# Altium schematic symbol library STC系列单片机.SchLib: 56 symbols
Pins are listed as number, name and electrical type; pins without a type are passive.

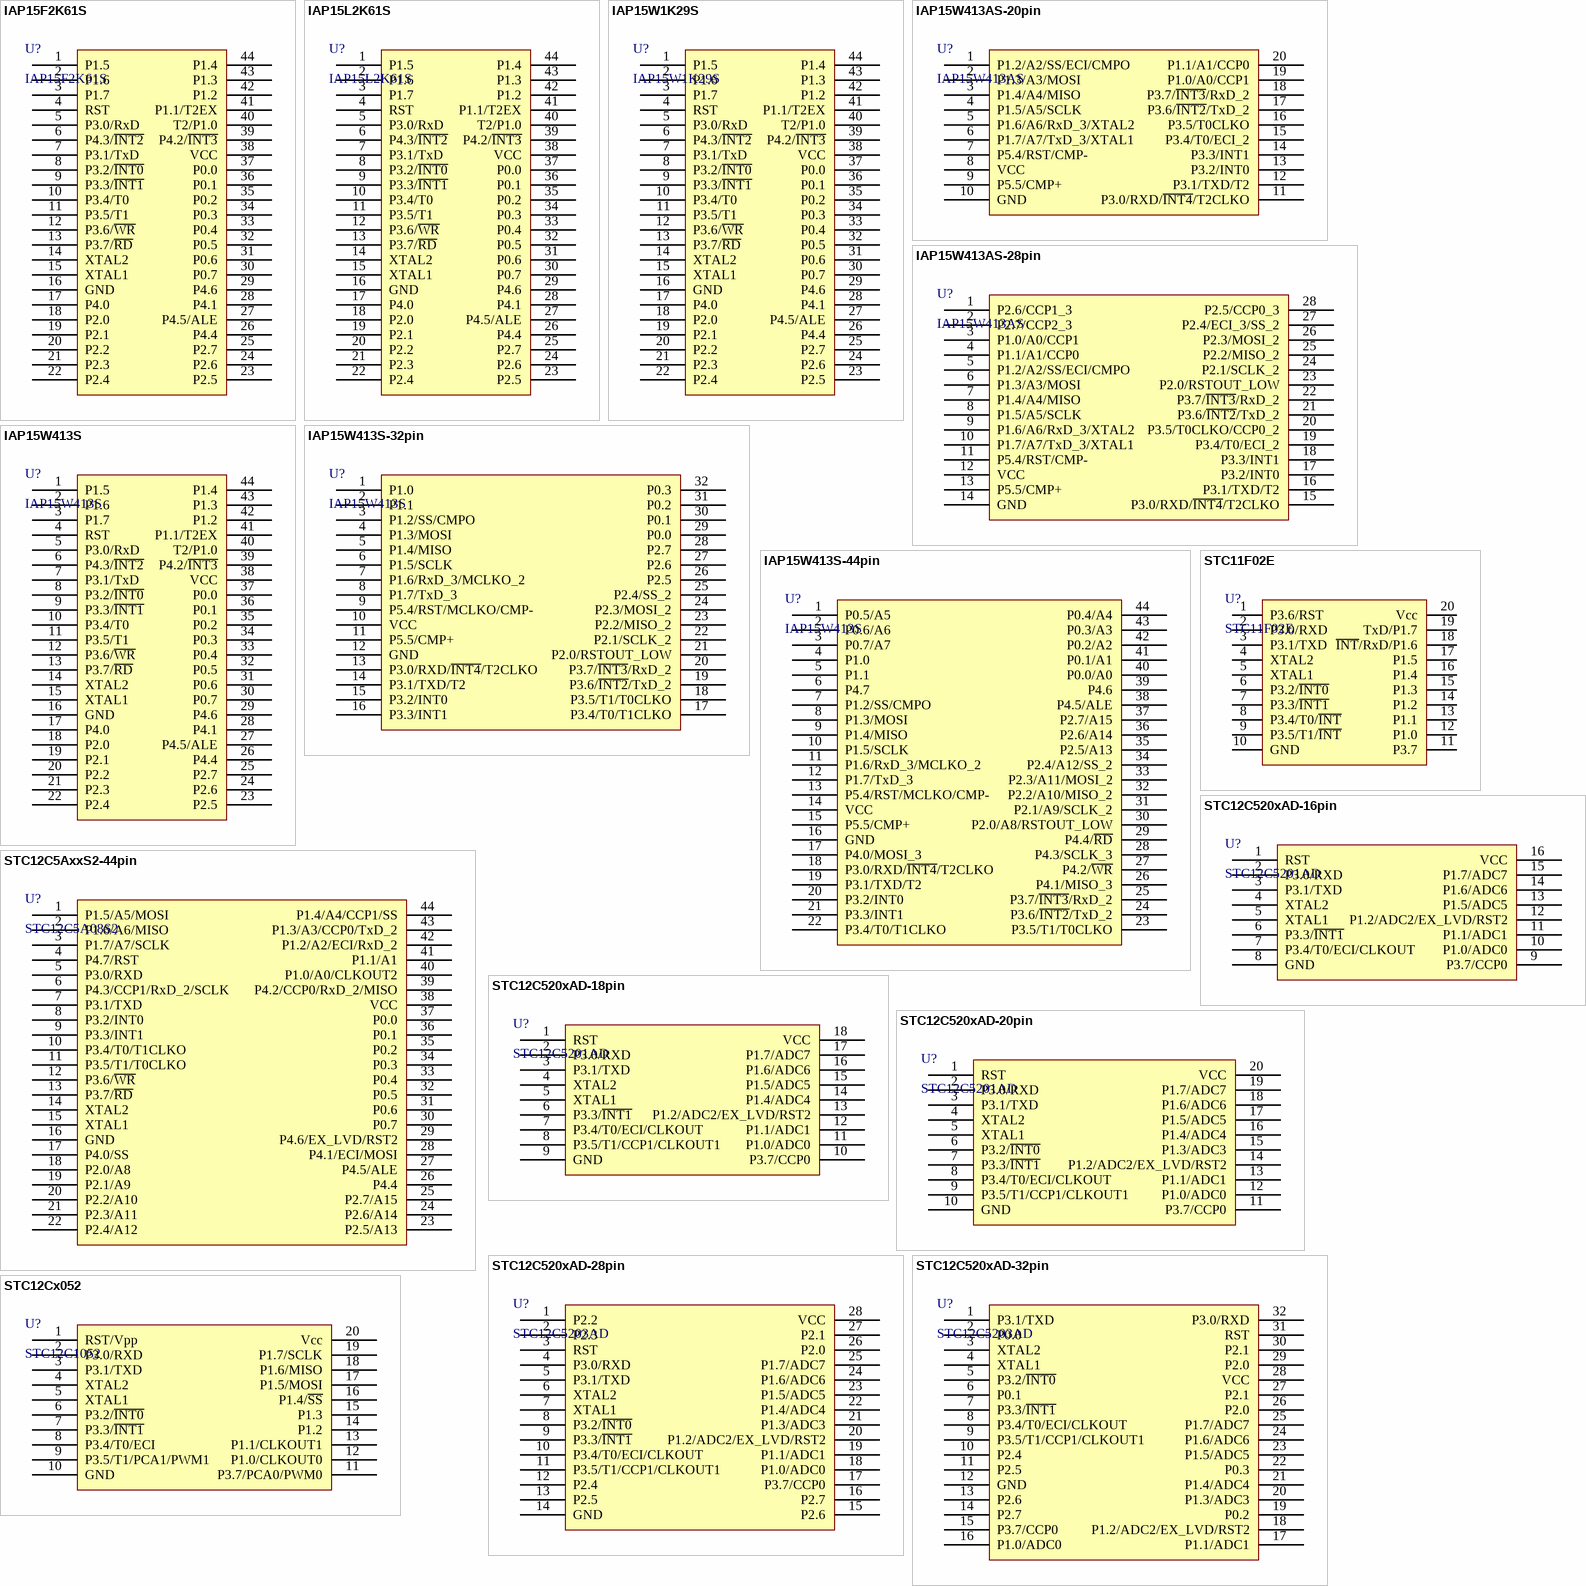
[diagram p0: symbols IAP15F2K61S to STC12Cx052]

## IAP15F2K61S
designator U?
STC单片机; 版权归属: 源创客; BOM名称: STC单片机; 学习资源: www.ooocke.com
footprint LQFP44 10X10_N (10*10*1.4(长宽高，除引脚）)
footprint LQFP44 10X10_L (10*10*1.4(长宽高，除引脚）)
footprint LQFP44 10X10_M (10*10*1.4(长宽高，除引脚）)
pins: 1 P1.5, 2 P1.6, 3 P1.7, 4 RST, 5 P3.0/RxD, 6 P4.3/~{INT2}, 7 P3.1/TxD, 8 P3.2/~{INT0}, 9 P3.3/~{INT1}, 10 P3.4/T0, 11 P3.5/T1, 12 P3.6/~{WR}, 13 P3.7/~{RD}, 14 XTAL2, 15 XTAL1, 16 GND, 17 P4.0, 18 P2.0, 19 P2.1, 20 P2.2, 21 P2.3, 22 P2.4, 23 P2.5, 24 P2.6, 25 P2.7, 26 P4.4, 27 P4.5/ALE, 28 P4.1, 29 P4.6, 30 P0.7, 31 P0.6, 32 P0.5, 33 P0.4, 34 P0.3, 35 P0.2, 36 P0.1, 37 P0.0, 38 VCC, 39 P4.2/~{INT3}, 40 T2/P1.0, 41 P1.1/T2EX, 42 P1.2, 43 P1.3, 44 P1.4

## IAP15L2K61S
designator U?
STC单片机; 版权归属: 源创客; BOM名称: STC单片机; 学习资源: www.ooocke.com
footprint LQFP44 10X10_N (10*10*1.4(长宽高，除引脚）)
footprint LQFP44 10X10_L (10*10*1.4(长宽高，除引脚）)
footprint LQFP44 10X10_M (10*10*1.4(长宽高，除引脚）)
pins: 1 P1.5, 2 P1.6, 3 P1.7, 4 RST, 5 P3.0/RxD, 6 P4.3/~{INT2}, 7 P3.1/TxD, 8 P3.2/~{INT0}, 9 P3.3/~{INT1}, 10 P3.4/T0, 11 P3.5/T1, 12 P3.6/~{WR}, 13 P3.7/~{RD}, 14 XTAL2, 15 XTAL1, 16 GND, 17 P4.0, 18 P2.0, 19 P2.1, 20 P2.2, 21 P2.3, 22 P2.4, 23 P2.5, 24 P2.6, 25 P2.7, 26 P4.4, 27 P4.5/ALE, 28 P4.1, 29 P4.6, 30 P0.7, 31 P0.6, 32 P0.5, 33 P0.4, 34 P0.3, 35 P0.2, 36 P0.1, 37 P0.0, 38 VCC, 39 P4.2/~{INT3}, 40 T2/P1.0, 41 P1.1/T2EX, 42 P1.2, 43 P1.3, 44 P1.4

## IAP15W1K29S
designator U?
STC单片机; 版权归属: 源创客; BOM名称: STC单片机; 学习资源: www.ooocke.com
footprint LQFP44 10X10_N (10*10*1.4(长宽高，除引脚）)
footprint LQFP44 10X10_L (10*10*1.4(长宽高，除引脚）)
footprint LQFP44 10X10_M (10*10*1.4(长宽高，除引脚）)
pins: 1 P1.5, 2 P1.6, 3 P1.7, 4 RST, 5 P3.0/RxD, 6 P4.3/~{INT2}, 7 P3.1/TxD, 8 P3.2/~{INT0}, 9 P3.3/~{INT1}, 10 P3.4/T0, 11 P3.5/T1, 12 P3.6/~{WR}, 13 P3.7/~{RD}, 14 XTAL2, 15 XTAL1, 16 GND, 17 P4.0, 18 P2.0, 19 P2.1, 20 P2.2, 21 P2.3, 22 P2.4, 23 P2.5, 24 P2.6, 25 P2.7, 26 P4.4, 27 P4.5/ALE, 28 P4.1, 29 P4.6, 30 P0.7, 31 P0.6, 32 P0.5, 33 P0.4, 34 P0.3, 35 P0.2, 36 P0.1, 37 P0.0, 38 VCC, 39 P4.2/~{INT3}, 40 T2/P1.0, 41 P1.1/T2EX, 42 P1.2, 43 P1.3, 44 P1.4

## IAP15W413AS-20pin
designator U?, comment IAP15W413AS
STC单片机; 版权归属: 源创客; BOM名称: STC单片机; 学习资源: www.ooocke.com
footprint DIP20-300 (26.4*7.6*3.8(长宽高）)
footprint SOP20_L (13*10.6*2.6（长宽高）)
footprint SOP20_N (13*10.6*2.6（长宽高）)
footprint SOP20_M (13*10.6*2.6（长宽高）)
pins: 1 P1.2/A2/SS/ECI/CMPO, 2 P1.3/A3/MOSI, 3 P1.4/A4/MISO, 4 P1.5/A5/SCLK, 5 P1.6/A6/RxD_3/XTAL2, 6 P1.7/A7/TxD_3/XTAL1, 7 P5.4/RST/CMP-, 8 VCC, 9 P5.5/CMP+, 10 GND, 11 P3.0/RXD/~{INT4}/T2CLKO, 12 P3.1/TXD/T2, 13 P3.2/INT0, 14 P3.3/INT1, 15 P3.4/T0/ECI_2, 16 P3.5/T0CLKO, 17 P3.6/~{INT2}/TxD_2, 18 P3.7/~{INT3}/RxD_2, 19 P1.0/A0/CCP1, 20 P1.1/A1/CCP0

## IAP15W413AS-28pin
designator U?, comment IAP15W413AS
STC单片机; 版权归属: 源创客; BOM名称: STC单片机; 学习资源: www.ooocke.com
footprint DIP28-400 (36*10.16*3.8(长宽高）)
footprint SOP28_L (17.9*10.6*2.6mm（长宽高）)
footprint SOP28_N (17.9*10.6*2.6mm（长宽高）)
footprint SOP28_M (17.9*10.6*2.6mm（长宽高）)
pins: 1 P2.6/CCP1_3, 2 P2.7/CCP2_3, 3 P1.0/A0/CCP1, 4 P1.1/A1/CCP0, 5 P1.2/A2/SS/ECI/CMPO, 6 P1.3/A3/MOSI, 7 P1.4/A4/MISO, 8 P1.5/A5/SCLK, 9 P1.6/A6/RxD_3/XTAL2, 10 P1.7/A7/TxD_3/XTAL1, 11 P5.4/RST/CMP-, 12 VCC, 13 P5.5/CMP+, 14 GND, 15 P3.0/RXD/~{INT4}/T2CLKO, 16 P3.1/TXD/T2, 17 P3.2/INT0, 18 P3.3/INT1, 19 P3.4/T0/ECI_2, 20 P3.5/T0CLKO/CCP0_2, 21 P3.6/~{INT2}/TxD_2, 22 P3.7/~{INT3}/RxD_2, 23 P2.0/RSTOUT_LOW, 24 P2.1/SCLK_2, 25 P2.2/MISO_2, 26 P2.3/MOSI_2, 27 P2.4/ECI_3/SS_2, 28 P2.5/CCP0_3

## IAP15W413S
designator U?
STC单片机; 版权归属: 源创客; BOM名称: STC单片机; 学习资源: www.ooocke.com
footprint LQFP44 10X10_N (10*10*1.4(长宽高，除引脚）)
footprint LQFP44 10X10_L (10*10*1.4(长宽高，除引脚）)
footprint LQFP44 10X10_M (10*10*1.4(长宽高，除引脚）)
pins: 1 P1.5, 2 P1.6, 3 P1.7, 4 RST, 5 P3.0/RxD, 6 P4.3/~{INT2}, 7 P3.1/TxD, 8 P3.2/~{INT0}, 9 P3.3/~{INT1}, 10 P3.4/T0, 11 P3.5/T1, 12 P3.6/~{WR}, 13 P3.7/~{RD}, 14 XTAL2, 15 XTAL1, 16 GND, 17 P4.0, 18 P2.0, 19 P2.1, 20 P2.2, 21 P2.3, 22 P2.4, 23 P2.5, 24 P2.6, 25 P2.7, 26 P4.4, 27 P4.5/ALE, 28 P4.1, 29 P4.6, 30 P0.7, 31 P0.6, 32 P0.5, 33 P0.4, 34 P0.3, 35 P0.2, 36 P0.1, 37 P0.0, 38 VCC, 39 P4.2/~{INT3}, 40 T2/P1.0, 41 P1.1/T2EX, 42 P1.2, 43 P1.3, 44 P1.4

## IAP15W413S-32pin
designator U?, comment IAP15W413S
STC单片机; 版权归属: 源创客; BOM名称: STC单片机; 学习资源: www.ooocke.com
footprint LQFP32 7x7_L (7*7*1.4(长宽高，除引脚）)
footprint LQFP32 7x7_N (7*7*1.4(长宽高，除引脚）)
footprint LQFP32 7x7_M (7*7*1.4(长宽高，除引脚）)
pins: 1 P1.0, 2 P1.1, 3 P1.2/SS/CMPO, 4 P1.3/MOSI, 5 P1.4/MISO, 6 P1.5/SCLK, 7 P1.6/RxD_3/MCLKO_2, 8 P1.7/TxD_3, 9 P5.4/RST/MCLKO/CMP-, 10 VCC, 11 P5.5/CMP+, 12 GND, 13 P3.0/RXD/~{INT4}/T2CLKO, 14 P3.1/TXD/T2, 15 P3.2/INT0, 16 P3.3/INT1, 17 P3.4/T0/T1CLKO, 18 P3.5/T1/T0CLKO, 19 P3.6/~{INT2}/TxD_2, 20 P3.7/~{INT3}/RxD_2, 21 P2.0/RSTOUT_LOW, 22 P2.1/SCLK_2, 23 P2.2/MISO_2, 24 P2.3/MOSI_2, 25 P2.4/SS_2, 26 P2.5, 27 P2.6, 28 P2.7, 29 P0.0, 30 P0.1, 31 P0.2, 32 P0.3

## IAP15W413S-44pin
designator U?, comment IAP15W413S
STC单片机; 版权归属: 源创客; BOM名称: STC单片机; 学习资源: www.ooocke.com
footprint LQFP44 10x10_L (10*10*1.4(长宽高，除引脚）)
footprint LQFP44 10x10_N (10*10*1.4(长宽高，除引脚）)
footprint LQFP44 10x10_M (10*10*1.4(长宽高，除引脚）)
pins: 1 P0.5/A5, 2 P0.6/A6, 3 P0.7/A7, 4 P1.0, 5 P1.1, 6 P4.7, 7 P1.2/SS/CMPO, 8 P1.3/MOSI, 9 P1.4/MISO, 10 P1.5/SCLK, 11 P1.6/RxD_3/MCLKO_2, 12 P1.7/TxD_3, 13 P5.4/RST/MCLKO/CMP-, 14 VCC, 15 P5.5/CMP+, 16 GND, 17 P4.0/MOSI_3, 18 P3.0/RXD/~{INT4}/T2CLKO, 19 P3.1/TXD/T2, 20 P3.2/INT0, 21 P3.3/INT1, 22 P3.4/T0/T1CLKO, 23 P3.5/T1/T0CLKO, 24 P3.6/~{INT2}/TxD_2, 25 P3.7/~{INT3}/RxD_2, 26 P4.1/MISO_3, 27 P4.2/~{WR}, 28 P4.3/SCLK_3, 29 P4.4/~{RD}, 30 P2.0/A8/RSTOUT_LOW, 31 P2.1/A9/SCLK_2, 32 P2.2/A10/MISO_2, 33 P2.3/A11/MOSI_2, 34 P2.4/A12/SS_2, 35 P2.5/A13, 36 P2.6/A14, 37 P2.7/A15, 38 P4.5/ALE, 39 P4.6, 40 P0.0/A0, 41 P0.1/A1, 42 P0.2/A2, 43 P0.3/A3, 44 P0.4/A4

## STC11F02E
designator U?
STC单片机; 版权归属: 源创客; 学习资源: www.ooocke.com; BOM名称: STC单片机
footprint DIP20-300 (26.4*7.6*3.8(长宽高）)
footprint SOP20_N (13*10.6*2.6（长宽高）)
footprint SOP20_L (13*10.6*2.6（长宽高）)
footprint SOP20_M (13*10.6*2.6（长宽高）)
pins: 1 P3.6/RST, 2 P3.0/RXD, 3 P3.1/TXD, 4 XTAL2, 5 XTAL1, 6 P3.2/~{INT0}, 7 P3.3/~{INT1}, 8 P3.4/T0/~{INT}, 9 P3.5/T1/~{INT}, 10 GND, 11 P3.7, 12 P1.0, 13 P1.1, 14 P1.2, 15 P1.3, 16 P1.4, 17 P1.5, 18 ~{INT}/RxD/P1.6, 19 TxD/P1.7, 20 Vcc

## STC12C5AxxS2-44pin
designator U?, comment STC12C5A08S2
STC单片机; 版权归属: 源创客; BOM名称: STC单片机; 学习资源: www.ooocke.com
footprint LQFP44 10x10_L (10*10*1.4(长宽高，除引脚）)
footprint LQFP44 10x10_N (10*10*1.4(长宽高，除引脚）)
footprint LQFP44 10x10_M (10*10*1.4(长宽高，除引脚）)
pins: 1 P1.5/A5/MOSI, 2 P1.6/A6/MISO, 3 P1.7/A7/SCLK, 4 P4.7/RST, 5 P3.0/RXD, 6 P4.3/CCP1/RxD_2/SCLK, 7 P3.1/TXD, 8 P3.2/INT0, 9 P3.3/INT1, 10 P3.4/T0/T1CLKO, 11 P3.5/T1/T0CLKO, 12 P3.6/~{WR}, 13 P3.7/~{RD}, 14 XTAL2, 15 XTAL1, 16 GND, 17 P4.0/SS, 18 P2.0/A8, 19 P2.1/A9, 20 P2.2/A10, 21 P2.3/A11, 22 P2.4/A12, 23 P2.5/A13, 24 P2.6/A14, 25 P2.7/A15, 26 P4.4, 27 P4.5/ALE, 28 P4.1/ECI/MOSI, 29 P4.6/EX_LVD/RST2, 30 P0.7, 31 P0.6, 32 P0.5, 33 P0.4, 34 P0.3, 35 P0.2, 36 P0.1, 37 P0.0, 38 VCC, 39 P4.2/CCP0/RxD_2/MISO, 40 P1.0/A0/CLKOUT2, 41 P1.1/A1, 42 P1.2/A2/ECI/RxD_2, 43 P1.3/A3/CCP0/TxD_2, 44 P1.4/A4/CCP1/SS

## STC12C520xAD-16pin
designator U?, comment STC12C5201AD
STC带AD单片机; 版权归属: 源创客; BOM名称: STC带AD单片机; 学习资源: www.ooocke.com
footprint DIP16-300 (19.3*7.6*3.8(长宽高）)
footprint SOP16_L (10.3*6.2*1.8mm（长宽高）)
footprint SOP16_N (10.3*6.2*1.8mm（长宽高）)
footprint SOP16_M (10.3*6.2*1.8mm（长宽高）)
pins: 1 RST, 2 P3.0/RXD, 3 P3.1/TXD, 4 XTAL2, 5 XTAL1, 6 P3.3/~{INT1}, 7 P3.4/T0/ECI/CLKOUT, 8 GND, 9 P3.7/CCP0, 10 P1.0/ADC0, 11 P1.1/ADC1, 12 P1.2/ADC2/EX_LVD/RST2, 13 P1.5/ADC5, 14 P1.6/ADC6, 15 P1.7/ADC7, 16 VCC

## STC12C520xAD-18pin
designator U?, comment STC12C5201AD
STC带AD单片机; 版权归属: 源创客; BOM名称: STC带AD单片机; 学习资源: www.ooocke.com
footprint DIP18-300 (23*7.6*3.8(长宽高）)
pins: 1 RST, 2 P3.0/RXD, 3 P3.1/TXD, 4 XTAL2, 5 XTAL1, 6 P3.3/~{INT1}, 7 P3.4/T0/ECI/CLKOUT, 8 P3.5/T1/CCP1/CLKOUT1, 9 GND, 10 P3.7/CCP0, 11 P1.0/ADC0, 12 P1.1/ADC1, 13 P1.2/ADC2/EX_LVD/RST2, 14 P1.4/ADC4, 15 P1.5/ADC5, 16 P1.6/ADC6, 17 P1.7/ADC7, 18 VCC

## STC12C520xAD-20pin
designator U?, comment STC12C5201AD
STC带AD单片机; 版权归属: 源创客; BOM名称: STC带AD单片机; 学习资源: www.ooocke.com
footprint DIP20-300 (26.4*7.6*3.8(长宽高）)
footprint SOP20_L (13*10.6*2.6（长宽高）)
footprint SOP20_N (13*10.6*2.6（长宽高）)
footprint SOP20_M (13*10.6*2.6（长宽高）)
pins: 1 RST, 2 P3.0/RXD, 3 P3.1/TXD, 4 XTAL2, 5 XTAL1, 6 P3.2/~{INT0}, 7 P3.3/~{INT1}, 8 P3.4/T0/ECI/CLKOUT, 9 P3.5/T1/CCP1/CLKOUT1, 10 GND, 11 P3.7/CCP0, 12 P1.0/ADC0, 13 P1.1/ADC1, 14 P1.2/ADC2/EX_LVD/RST2, 15 P1.3/ADC3, 16 P1.4/ADC4, 17 P1.5/ADC5, 18 P1.6/ADC6, 19 P1.7/ADC7, 20 VCC

## STC12C520xAD-28pin
designator U?, comment STC12C5203AD
STC带AD单片机; 版权归属: 源创客; BOM名称: STC带AD单片机; 学习资源: www.ooocke.com
footprint DIP28-400 (36*10.16*3.8(长宽高）)
footprint SOP28_L (17.9*10.6*2.6mm（长宽高）)
footprint SOP28_N (17.9*10.6*2.6mm（长宽高）)
footprint SOP28_M (17.9*10.6*2.6mm（长宽高）)
pins: 1 P2.2, 2 P2.3, 3 RST, 4 P3.0/RXD, 5 P3.1/TXD, 6 XTAL2, 7 XTAL1, 8 P3.2/~{INT0}, 9 P3.3/~{INT1}, 10 P3.4/T0/ECI/CLKOUT, 11 P3.5/T1/CCP1/CLKOUT1, 12 P2.4, 13 P2.5, 14 GND, 15 P2.6, 16 P2.7, 17 P3.7/CCP0, 18 P1.0/ADC0, 19 P1.1/ADC1, 20 P1.2/ADC2/EX_LVD/RST2, 21 P1.3/ADC3, 22 P1.4/ADC4, 23 P1.5/ADC5, 24 P1.6/ADC6, 25 P1.7/ADC7, 26 P2.0, 27 P2.1, 28 VCC

## STC12C520xAD-32pin
designator U?, comment STC12C5203AD
STC带AD单片机; 版权归属: 源创客; BOM名称: STC带AD单片机; 学习资源: www.ooocke.com
footprint LQFP32 7x7_L (7*7*1.4(长宽高，除引脚）)
footprint LQFP32 7x7_N (7*7*1.4(长宽高，除引脚）)
footprint LQFP32 7x7_M (7*7*1.4(长宽高，除引脚）)
pins: 1 P3.1/TXD, 2 P0.0, 3 XTAL2, 4 XTAL1, 5 P3.2/~{INT0}, 6 P0.1, 7 P3.3/~{INT1}, 8 P3.4/T0/ECI/CLKOUT, 9 P3.5/T1/CCP1/CLKOUT1, 10 P2.4, 11 P2.5, 12 GND, 13 P2.6, 14 P2.7, 15 P3.7/CCP0, 16 P1.0/ADC0, 17 P1.1/ADC1, 18 P1.2/ADC2/EX_LVD/RST2, 19 P0.2, 20 P1.3/ADC3, 21 P1.4/ADC4, 22 P0.3, 23 P1.5/ADC5, 24 P1.6/ADC6, 25 P1.7/ADC7, 26 P2.0, 27 P2.1, 28 VCC, 29 P2.0, 30 P2.1, 31 RST, 32 P3.0/RXD

## STC12Cx052
designator U?, comment STC12C1052
STC单片机; 版权归属: 源创客; 学习资源: www.ooocke.com; BOM名称: STC单片机
footprint DIP20-300 (26.4*7.6*3.8(长宽高）)
footprint SOP20_L (13*10.6*2.6（长宽高）)
footprint SOP20_M (13*10.6*2.6（长宽高）)
footprint SOP20_N (13*10.6*2.6（长宽高）)
pins: 1 RST/Vpp, 2 P3.0/RXD, 3 P3.1/TXD, 4 XTAL2, 5 XTAL1, 6 P3.2/~{INT0}, 7 P3.3/~{INT1}, 8 P3.4/T0/ECI, 9 P3.5/T1/PCA1/PWM1, 10 GND, 11 P3.7/PCA0/PWM0, 12 P1.0/CLKOUT0, 13 P1.1/CLKOUT1, 14 P1.2, 15 P1.3, 16 P1.4/~{SS}, 17 P1.5/MOSI, 18 P1.6/MISO, 19 P1.7/SCLK, 20 Vcc

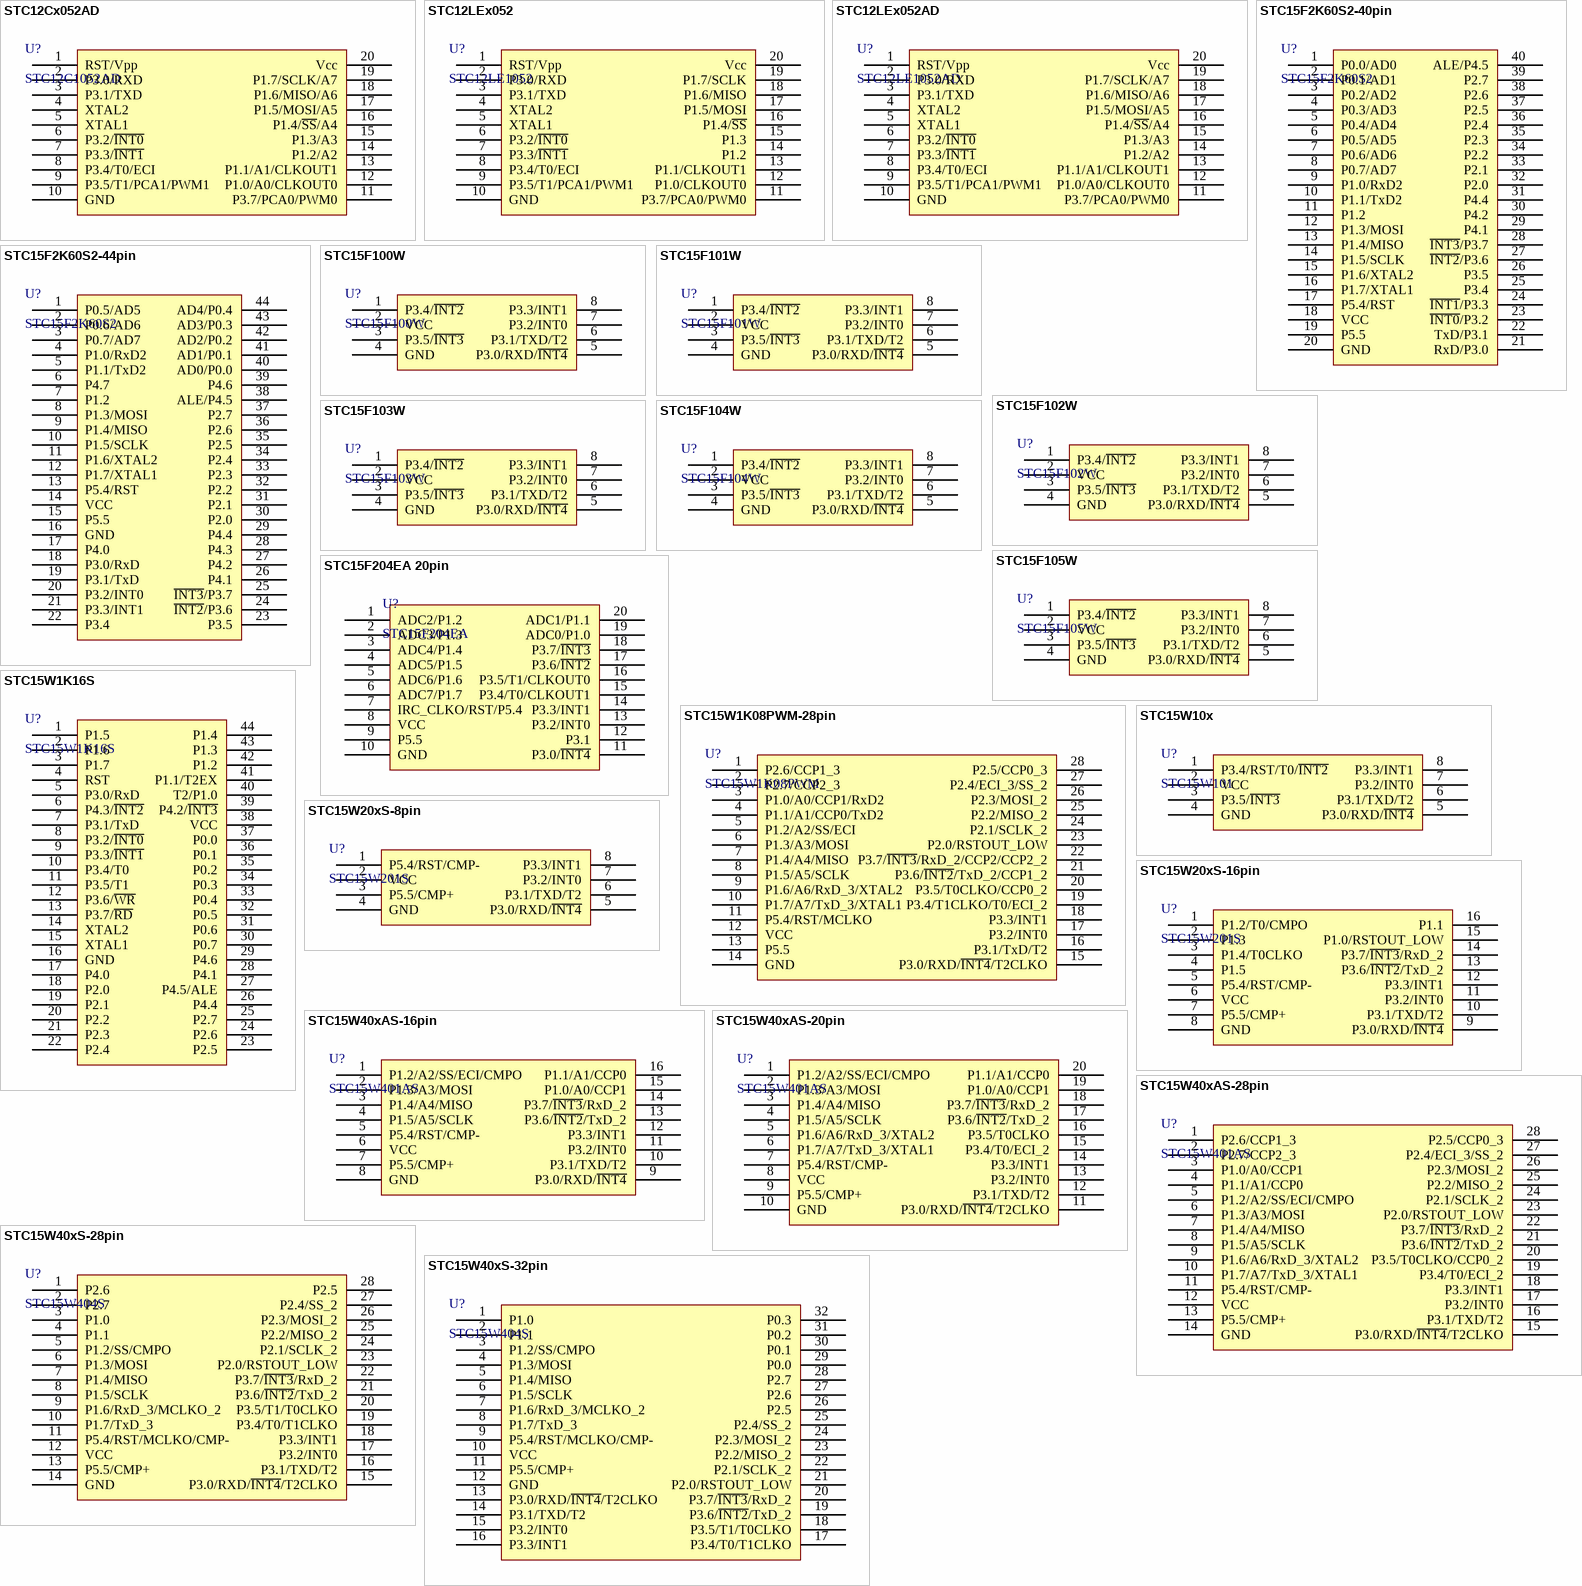
[diagram p1: symbols STC12Cx052AD to STC15W40xS-32pin]

## STC12Cx052AD
designator U?, comment STC12C1052AD
STC带AD单片机; 版权归属: 源创客; 学习资源: www.ooocke.com; BOM名称: STC带AD单片机
footprint DIP20-300 (26.4*7.6*3.8(长宽高）)
footprint SOP20_L (13*10.6*2.6（长宽高）)
footprint SOP20_M (13*10.6*2.6（长宽高）)
footprint SOP20_N (13*10.6*2.6（长宽高）)
pins: 1 RST/Vpp, 2 P3.0/RXD, 3 P3.1/TXD, 4 XTAL2, 5 XTAL1, 6 P3.2/~{INT0}, 7 P3.3/~{INT1}, 8 P3.4/T0/ECI, 9 P3.5/T1/PCA1/PWM1, 10 GND, 11 P3.7/PCA0/PWM0, 12 P1.0/A0/CLKOUT0, 13 P1.1/A1/CLKOUT1, 14 P1.2/A2, 15 P1.3/A3, 16 P1.4/~{SS}/A4, 17 P1.5/MOSI/A5, 18 P1.6/MISO/A6, 19 P1.7/SCLK/A7, 20 Vcc

## STC12LEx052
designator U?, comment STC12LE1052
STC单片机; 版权归属: 源创客; 学习资源: www.ooocke.com; BOM名称: STC单片机
footprint DIP20-300 (26.4*7.6*3.8(长宽高）)
footprint SOP20_L (13*10.6*2.6（长宽高）)
footprint SOP20_M (13*10.6*2.6（长宽高）)
footprint SOP20_N (13*10.6*2.6（长宽高）)
pins: 1 RST/Vpp, 2 P3.0/RXD, 3 P3.1/TXD, 4 XTAL2, 5 XTAL1, 6 P3.2/~{INT0}, 7 P3.3/~{INT1}, 8 P3.4/T0/ECI, 9 P3.5/T1/PCA1/PWM1, 10 GND, 11 P3.7/PCA0/PWM0, 12 P1.0/CLKOUT0, 13 P1.1/CLKOUT1, 14 P1.2, 15 P1.3, 16 P1.4/~{SS}, 17 P1.5/MOSI, 18 P1.6/MISO, 19 P1.7/SCLK, 20 Vcc

## STC12LEx052AD
designator U?, comment STC12LE1052AD
STC带AD单片机; 版权归属: 源创客; 学习资源: www.ooocke.com; BOM名称: STC带AD单片机
footprint DIP20-300 (26.4*7.6*3.8(长宽高）)
footprint SOP20_L (13*10.6*2.6（长宽高）)
footprint SOP20_M (13*10.6*2.6（长宽高）)
footprint SOP20_N (13*10.6*2.6（长宽高）)
pins: 1 RST/Vpp, 2 P3.0/RXD, 3 P3.1/TXD, 4 XTAL2, 5 XTAL1, 6 P3.2/~{INT0}, 7 P3.3/~{INT1}, 8 P3.4/T0/ECI, 9 P3.5/T1/PCA1/PWM1, 10 GND, 11 P3.7/PCA0/PWM0, 12 P1.0/A0/CLKOUT0, 13 P1.1/A1/CLKOUT1, 14 P1.2/A2, 15 P1.3/A3, 16 P1.4/~{SS}/A4, 17 P1.5/MOSI/A5, 18 P1.6/MISO/A6, 19 P1.7/SCLK/A7, 20 Vcc

## STC15F2K60S2-40pin
designator U?, comment STC15F2K60S2
STC单片机; 版权归属: 源创客; BOM名称: STC单片机; 学习资源: www.ooocke.com
footprint DIP40-600_MH (带底座 52*15.2*4mm(长宽高))
footprint DIP40-600 (52*15.2*4mm(长宽高))
pins: 1 P0.0/AD0, 2 P0.1/AD1, 3 P0.2/AD2, 4 P0.3/AD3, 5 P0.4/AD4, 6 P0.5/AD5, 7 P0.6/AD6, 8 P0.7/AD7, 9 P1.0/RxD2, 10 P1.1/TxD2, 11 P1.2, 12 P1.3/MOSI, 13 P1.4/MISO, 14 P1.5/SCLK, 15 P1.6/XTAL2, 16 P1.7/XTAL1, 17 P5.4/RST, 18 VCC, 19 P5.5, 20 GND, 21 RxD/P3.0, 22 TxD/P3.1, 23 ~{INT0}/P3.2, 24 ~{INT1}/P3.3, 25 P3.4, 26 P3.5, 27 ~{INT2}/P3.6, 28 ~{INT3}/P3.7, 29 P4.1, 30 P4.2, 31 P4.4, 32 P2.0, 33 P2.1, 34 P2.2, 35 P2.3, 36 P2.4, 37 P2.5, 38 P2.6, 39 P2.7, 40 ALE/P4.5

## STC15F2K60S2-44pin
designator U?, comment STC15F2K60S2
STC单片机; 版权归属: 源创客; BOM名称: STC单片机; 学习资源: www.ooocke.com
footprint LQFP44 10X10_L (44脚，体宽10x10mm，脚距0.8mm)
footprint LQFP44 10X10_M (44脚，体宽10x10mm，脚距0.8mm)
footprint LQFP44 10X10_N (44脚，体宽10x10mm，脚距0.8mm)
pins: 1 P0.5/AD5, 2 P0.6/AD6, 3 P0.7/AD7, 4 P1.0/RxD2, 5 P1.1/TxD2, 6 P4.7, 7 P1.2, 8 P1.3/MOSI, 9 P1.4/MISO, 10 P1.5/SCLK, 11 P1.6/XTAL2, 12 P1.7/XTAL1, 13 P5.4/RST, 14 VCC, 15 P5.5, 16 GND, 17 P4.0, 18 P3.0/RxD, 19 P3.1/TxD, 20 P3.2/INT0, 21 P3.3/INT1, 22 P3.4, 23 P3.5, 24 ~{INT2}/P3.6, 25 ~{INT3}/P3.7, 26 P4.1, 27 P4.2, 28 P4.3, 29 P4.4, 30 P2.0, 31 P2.1, 32 P2.2, 33 P2.3, 34 P2.4, 35 P2.5, 36 P2.6, 37 P2.7, 38 ALE/P4.5, 39 P4.6, 40 AD0/P0.0, 41 AD1/P0.1, 42 AD2/P0.2, 43 AD3/P0.3, 44 AD4/P0.4

## STC15F100W
designator U?
STC单片机; 版权归属: 源创客; BOM名称: STC单片机; 学习资源: www.ooocke.com
footprint DIP8-300 (9.4*7.6*3.8(长宽高）)
footprint SOP8_L (5*6*1.8mm（长宽高）)
footprint SOP8_N (5*6*1.8mm（长宽高）)
footprint SOP8_M (5*6*1.8mm（长宽高）)
pins: 1 P3.4/~{INT2}, 2 VCC, 3 P3.5/~{INT3}, 4 GND, 5 P3.0/RXD/~{INT4}, 6 P3.1/TXD/T2, 7 P3.2/INT0, 8 P3.3/INT1

## STC15F101W
designator U?
STC单片机; 版权归属: 源创客; BOM名称: STC单片机; 学习资源: www.ooocke.com
footprint DIP8-300 (9.4*7.6*3.8(长宽高）)
footprint SOP8_L (5*6*1.8mm（长宽高）)
footprint SOP8_N (5*6*1.8mm（长宽高）)
footprint SOP8_M (5*6*1.8mm（长宽高）)
pins: 1 P3.4/~{INT2}, 2 VCC, 3 P3.5/~{INT3}, 4 GND, 5 P3.0/RXD/~{INT4}, 6 P3.1/TXD/T2, 7 P3.2/INT0, 8 P3.3/INT1

## STC15F102W
designator U?
STC单片机; 版权归属: 源创客; BOM名称: STC单片机; 学习资源: www.ooocke.com
footprint DIP8-300 (9.4*7.6*3.8(长宽高）)
footprint SOP8_L (5*6*1.8mm（长宽高）)
footprint SOP8_N (5*6*1.8mm（长宽高）)
footprint SOP8_M (5*6*1.8mm（长宽高）)
pins: 1 P3.4/~{INT2}, 2 VCC, 3 P3.5/~{INT3}, 4 GND, 5 P3.0/RXD/~{INT4}, 6 P3.1/TXD/T2, 7 P3.2/INT0, 8 P3.3/INT1

## STC15F103W
designator U?
STC单片机; 版权归属: 源创客; BOM名称: STC单片机; 学习资源: www.ooocke.com
footprint DIP8-300 (9.4*7.6*3.8(长宽高）)
footprint SOP8_L (5*6*1.8mm（长宽高）)
footprint SOP8_N (5*6*1.8mm（长宽高）)
footprint SOP8_M (5*6*1.8mm（长宽高）)
pins: 1 P3.4/~{INT2}, 2 VCC, 3 P3.5/~{INT3}, 4 GND, 5 P3.0/RXD/~{INT4}, 6 P3.1/TXD/T2, 7 P3.2/INT0, 8 P3.3/INT1

## STC15F104W
designator U?
STC单片机; 版权归属: 源创客; BOM名称: STC单片机; 学习资源: www.ooocke.com
footprint DIP8-300 (9.4*7.6*3.8(长宽高）)
footprint SOP8_L (5*6*1.8mm（长宽高）)
footprint SOP8_N (5*6*1.8mm（长宽高）)
footprint SOP8_M (5*6*1.8mm（长宽高）)
pins: 1 P3.4/~{INT2}, 2 VCC, 3 P3.5/~{INT3}, 4 GND, 5 P3.0/RXD/~{INT4}, 6 P3.1/TXD/T2, 7 P3.2/INT0, 8 P3.3/INT1

## STC15F105W
designator U?
STC单片机; 版权归属: 源创客; BOM名称: STC单片机; 学习资源: www.ooocke.com
footprint DIP8-300 (9.4*7.6*3.8(长宽高）)
footprint SOP8_L (5*6*1.8mm（长宽高）)
footprint SOP8_N (5*6*1.8mm（长宽高）)
footprint SOP8_M (5*6*1.8mm（长宽高）)
pins: 1 P3.4/~{INT2}, 2 VCC, 3 P3.5/~{INT3}, 4 GND, 5 P3.0/RXD/~{INT4}, 6 P3.1/TXD/T2, 7 P3.2/INT0, 8 P3.3/INT1

## STC15F204EA 20pin
designator U?, comment STC15F204EA
STC单片机; 版权归属: 源创客; BOM名称: STC单片机; 学习资源: www.ooocke.com
footprint DIP20-300 (26.4*7.6*3.8(长宽高）)
footprint DIP20-300_MH (带底座 26.4*7.6*3.8(长宽高）)
footprint SOP20_L (13*10.6*2.6（长宽高）)
footprint SOP20_N (13*10.6*2.6（长宽高）)
footprint SOP20_M (13*10.6*2.6（长宽高）)
pins: 1 ADC2/P1.2, 2 ADC3/P1.3, 3 ADC4/P1.4, 4 ADC5/P1.5, 5 ADC6/P1.6, 6 ADC7/P1.7, 7 IRC_CLKO/RST/P5.4, 8 VCC, 9 P5.5, 10 GND, 11 P3.0/~{INT4}, 12 P3.1, 13 P3.2/INT0, 14 P3.3/INT1, 15 P3.4/T0/CLKOUT1, 16 P3.5/T1/CLKOUT0, 17 P3.6/~{INT2}, 18 P3.7/~{INT3}, 19 ADC0/P1.0, 20 ADC1/P1.1

## STC15W1K08PWM-28pin
designator U?, comment STC15W1K08PWM
STC单片机; 版权归属: 源创客; BOM名称: STC单片机; 学习资源: www.ooocke.com
footprint DIP28-400 (36*10.16*3.8(长宽高）)
footprint SOP28_L (17.9*10.6*2.6mm（长宽高）)
footprint SOP28_N (17.9*10.6*2.6mm（长宽高）)
footprint SOP28_M (17.9*10.6*2.6mm（长宽高）)
pins: 1 P2.6/CCP1_3, 2 P2.7/CCP2_3, 3 P1.0/A0/CCP1/RxD2, 4 P1.1/A1/CCP0/TxD2, 5 P1.2/A2/SS/ECI, 6 P1.3/A3/MOSI, 7 P1.4/A4/MISO, 8 P1.5/A5/SCLK, 9 P1.6/A6/RxD_3/XTAL2, 10 P1.7/A7/TxD_3/XTAL1, 11 P5.4/RST/MCLKO, 12 VCC, 13 P5.5, 14 GND, 15 P3.0/RXD/~{INT4}/T2CLKO, 16 P3.1/TxD/T2, 17 P3.2/INT0, 18 P3.3/INT1, 19 P3.4/T1CLKO/T0/ECI_2, 20 P3.5/T0CLKO/CCP0_2, 21 P3.6/~{INT2}/TxD_2/CCP1_2, 22 P3.7/~{INT3}/RxD_2/CCP2/CCP2_2, 23 P2.0/RSTOUT_LOW, 24 P2.1/SCLK_2, 25 P2.2/MISO_2, 26 P2.3/MOSI_2, 27 P2.4/ECI_3/SS_2, 28 P2.5/CCP0_3

## STC15W1K16S
designator U?
STC单片机; 版权归属: 源创客; BOM名称: STC单片机; 学习资源: www.ooocke.com
footprint LQFP44 10X10_N (10*10*1.4(长宽高，除引脚）)
footprint LQFP44 10X10_L (10*10*1.4(长宽高，除引脚）)
footprint LQFP44 10X10_M (10*10*1.4(长宽高，除引脚）)
pins: 1 P1.5, 2 P1.6, 3 P1.7, 4 RST, 5 P3.0/RxD, 6 P4.3/~{INT2}, 7 P3.1/TxD, 8 P3.2/~{INT0}, 9 P3.3/~{INT1}, 10 P3.4/T0, 11 P3.5/T1, 12 P3.6/~{WR}, 13 P3.7/~{RD}, 14 XTAL2, 15 XTAL1, 16 GND, 17 P4.0, 18 P2.0, 19 P2.1, 20 P2.2, 21 P2.3, 22 P2.4, 23 P2.5, 24 P2.6, 25 P2.7, 26 P4.4, 27 P4.5/ALE, 28 P4.1, 29 P4.6, 30 P0.7, 31 P0.6, 32 P0.5, 33 P0.4, 34 P0.3, 35 P0.2, 36 P0.1, 37 P0.0, 38 VCC, 39 P4.2/~{INT3}, 40 T2/P1.0, 41 P1.1/T2EX, 42 P1.2, 43 P1.3, 44 P1.4

## STC15W10x
designator U?, comment STC15W101
STC单片机; 版权归属: 源创客; BOM名称: STC单片机; 学习资源: www.ooocke.com
footprint DIP8-300 (9.4*7.6*3.8(长宽高）)
footprint SOP8_L (5*6*1.8mm（长宽高）)
footprint SOP8_N (5*6*1.8mm（长宽高）)
footprint SOP8_M (5*6*1.8mm（长宽高）)
pins: 1 P3.4/RST/T0/~{INT2}, 2 VCC, 3 P3.5/~{INT3}, 4 GND, 5 P3.0/RXD/~{INT4}, 6 P3.1/TXD/T2, 7 P3.2/INT0, 8 P3.3/INT1

## STC15W20xS-8pin
designator U?, comment STC15W201S
STC单片机; 版权归属: 源创客; BOM名称: STC单片机; 学习资源: www.ooocke.com
footprint DIP8-300 (9.4*7.6*3.8(长宽高）)
footprint SOP8_L (5*6*1.8mm（长宽高）)
footprint SOP8_N (5*6*1.8mm（长宽高）)
footprint SOP8_M (5*6*1.8mm（长宽高）)
pins: 1 P5.4/RST/CMP-, 2 VCC, 3 P5.5/CMP+, 4 GND, 5 P3.0/RXD/~{INT4}, 6 P3.1/TXD/T2, 7 P3.2/INT0, 8 P3.3/INT1

## STC15W20xS-16pin
designator U?, comment STC15W201S
STC单片机; 版权归属: 源创客; BOM名称: STC单片机; 学习资源: www.ooocke.com
footprint DIP16-300 (19.3*7.6*3.8(长宽高）)
footprint SOP16_L (10.3*6.2*1.8mm（长宽高）)
footprint SOP16_N (10.3*6.2*1.8mm（长宽高）)
footprint SOP16_M (10.3*6.2*1.8mm（长宽高）)
pins: 1 P1.2/T0/CMPO, 2 P1.3, 3 P1.4/T0CLKO, 4 P1.5, 5 P5.4/RST/CMP-, 6 VCC, 7 P5.5/CMP+, 8 GND, 9 P3.0/RXD/~{INT4}, 10 P3.1/TXD/T2, 11 P3.2/INT0, 12 P3.3/INT1, 13 P3.6/~{INT2}/TxD_2, 14 P3.7/~{INT3}/RxD_2, 15 P1.0/RSTOUT_LOW, 16 P1.1

## STC15W40xAS-16pin
designator U?, comment STC15W401AS
STC单片机; 版权归属: 源创客; BOM名称: STC单片机; 学习资源: www.ooocke.com
footprint DIP16-300 (19.3*7.6*3.8(长宽高）)
footprint SOP16_L (10.3*6.2*1.8mm（长宽高）)
footprint SOP16_N (10.3*6.2*1.8mm（长宽高）)
footprint SOP16_M (10.3*6.2*1.8mm（长宽高）)
pins: 1 P1.2/A2/SS/ECI/CMPO, 2 P1.3/A3/MOSI, 3 P1.4/A4/MISO, 4 P1.5/A5/SCLK, 5 P5.4/RST/CMP-, 6 VCC, 7 P5.5/CMP+, 8 GND, 9 P3.0/RXD/~{INT4}, 10 P3.1/TXD/T2, 11 P3.2/INT0, 12 P3.3/INT1, 13 P3.6/~{INT2}/TxD_2, 14 P3.7/~{INT3}/RxD_2, 15 P1.0/A0/CCP1, 16 P1.1/A1/CCP0

## STC15W40xAS-20pin
designator U?, comment STC15W401AS
STC单片机; 版权归属: 源创客; BOM名称: STC单片机; 学习资源: www.ooocke.com
footprint DIP20-300 (26.4*7.6*3.8(长宽高）)
footprint SOP20_L (13*10.6*2.6（长宽高）)
footprint SOP20_N (13*10.6*2.6（长宽高）)
footprint SOP20_M (13*10.6*2.6（长宽高）)
pins: 1 P1.2/A2/SS/ECI/CMPO, 2 P1.3/A3/MOSI, 3 P1.4/A4/MISO, 4 P1.5/A5/SCLK, 5 P1.6/A6/RxD_3/XTAL2, 6 P1.7/A7/TxD_3/XTAL1, 7 P5.4/RST/CMP-, 8 VCC, 9 P5.5/CMP+, 10 GND, 11 P3.0/RXD/~{INT4}/T2CLKO, 12 P3.1/TXD/T2, 13 P3.2/INT0, 14 P3.3/INT1, 15 P3.4/T0/ECI_2, 16 P3.5/T0CLKO, 17 P3.6/~{INT2}/TxD_2, 18 P3.7/~{INT3}/RxD_2, 19 P1.0/A0/CCP1, 20 P1.1/A1/CCP0

## STC15W40xAS-28pin
designator U?, comment STC15W401AS
STC单片机; 版权归属: 源创客; BOM名称: STC单片机; 学习资源: www.ooocke.com
footprint DIP28-400 (36*10.16*3.8(长宽高）)
footprint SOP28_L (17.9*10.6*2.6mm（长宽高）)
footprint SOP28_N (17.9*10.6*2.6mm（长宽高）)
footprint SOP28_M (17.9*10.6*2.6mm（长宽高）)
pins: 1 P2.6/CCP1_3, 2 P2.7/CCP2_3, 3 P1.0/A0/CCP1, 4 P1.1/A1/CCP0, 5 P1.2/A2/SS/ECI/CMPO, 6 P1.3/A3/MOSI, 7 P1.4/A4/MISO, 8 P1.5/A5/SCLK, 9 P1.6/A6/RxD_3/XTAL2, 10 P1.7/A7/TxD_3/XTAL1, 11 P5.4/RST/CMP-, 12 VCC, 13 P5.5/CMP+, 14 GND, 15 P3.0/RXD/~{INT4}/T2CLKO, 16 P3.1/TXD/T2, 17 P3.2/INT0, 18 P3.3/INT1, 19 P3.4/T0/ECI_2, 20 P3.5/T0CLKO/CCP0_2, 21 P3.6/~{INT2}/TxD_2, 22 P3.7/~{INT3}/RxD_2, 23 P2.0/RSTOUT_LOW, 24 P2.1/SCLK_2, 25 P2.2/MISO_2, 26 P2.3/MOSI_2, 27 P2.4/ECI_3/SS_2, 28 P2.5/CCP0_3

## STC15W40xS-28pin
designator U?, comment STC15W404S
STC单片机; 版权归属: 源创客; BOM名称: STC单片机; 学习资源: www.ooocke.com
footprint DIP28-400 (36*10.16*3.8(长宽高）)
footprint SOP28_L (17.9*10.6*2.6mm（长宽高）)
footprint SOP28_N (17.9*10.6*2.6mm（长宽高）)
footprint SOP28_M (17.9*10.6*2.6mm（长宽高）)
pins: 1 P2.6, 2 P2.7, 3 P1.0, 4 P1.1, 5 P1.2/SS/CMPO, 6 P1.3/MOSI, 7 P1.4/MISO, 8 P1.5/SCLK, 9 P1.6/RxD_3/MCLKO_2, 10 P1.7/TxD_3, 11 P5.4/RST/MCLKO/CMP-, 12 VCC, 13 P5.5/CMP+, 14 GND, 15 P3.0/RXD/~{INT4}/T2CLKO, 16 P3.1/TXD/T2, 17 P3.2/INT0, 18 P3.3/INT1, 19 P3.4/T0/T1CLKO, 20 P3.5/T1/T0CLKO, 21 P3.6/~{INT2}/TxD_2, 22 P3.7/~{INT3}/RxD_2, 23 P2.0/RSTOUT_LOW, 24 P2.1/SCLK_2, 25 P2.2/MISO_2, 26 P2.3/MOSI_2, 27 P2.4/SS_2, 28 P2.5

## STC15W40xS-32pin
designator U?, comment STC15W404S
STC单片机; 版权归属: 源创客; BOM名称: STC单片机; 学习资源: www.ooocke.com
footprint LQFP32 7x7_L (7*7*1.4(长宽高，除引脚）)
footprint LQFP32 7x7_N (7*7*1.4(长宽高，除引脚）)
footprint LQFP32 7x7_M (7*7*1.4(长宽高，除引脚）)
pins: 1 P1.0, 2 P1.1, 3 P1.2/SS/CMPO, 4 P1.3/MOSI, 5 P1.4/MISO, 6 P1.5/SCLK, 7 P1.6/RxD_3/MCLKO_2, 8 P1.7/TxD_3, 9 P5.4/RST/MCLKO/CMP-, 10 VCC, 11 P5.5/CMP+, 12 GND, 13 P3.0/RXD/~{INT4}/T2CLKO, 14 P3.1/TXD/T2, 15 P3.2/INT0, 16 P3.3/INT1, 17 P3.4/T0/T1CLKO, 18 P3.5/T1/T0CLKO, 19 P3.6/~{INT2}/TxD_2, 20 P3.7/~{INT3}/RxD_2, 21 P2.0/RSTOUT_LOW, 22 P2.1/SCLK_2, 23 P2.2/MISO_2, 24 P2.3/MOSI_2, 25 P2.4/SS_2, 26 P2.5, 27 P2.6, 28 P2.7, 29 P0.0, 30 P0.1, 31 P0.2, 32 P0.3

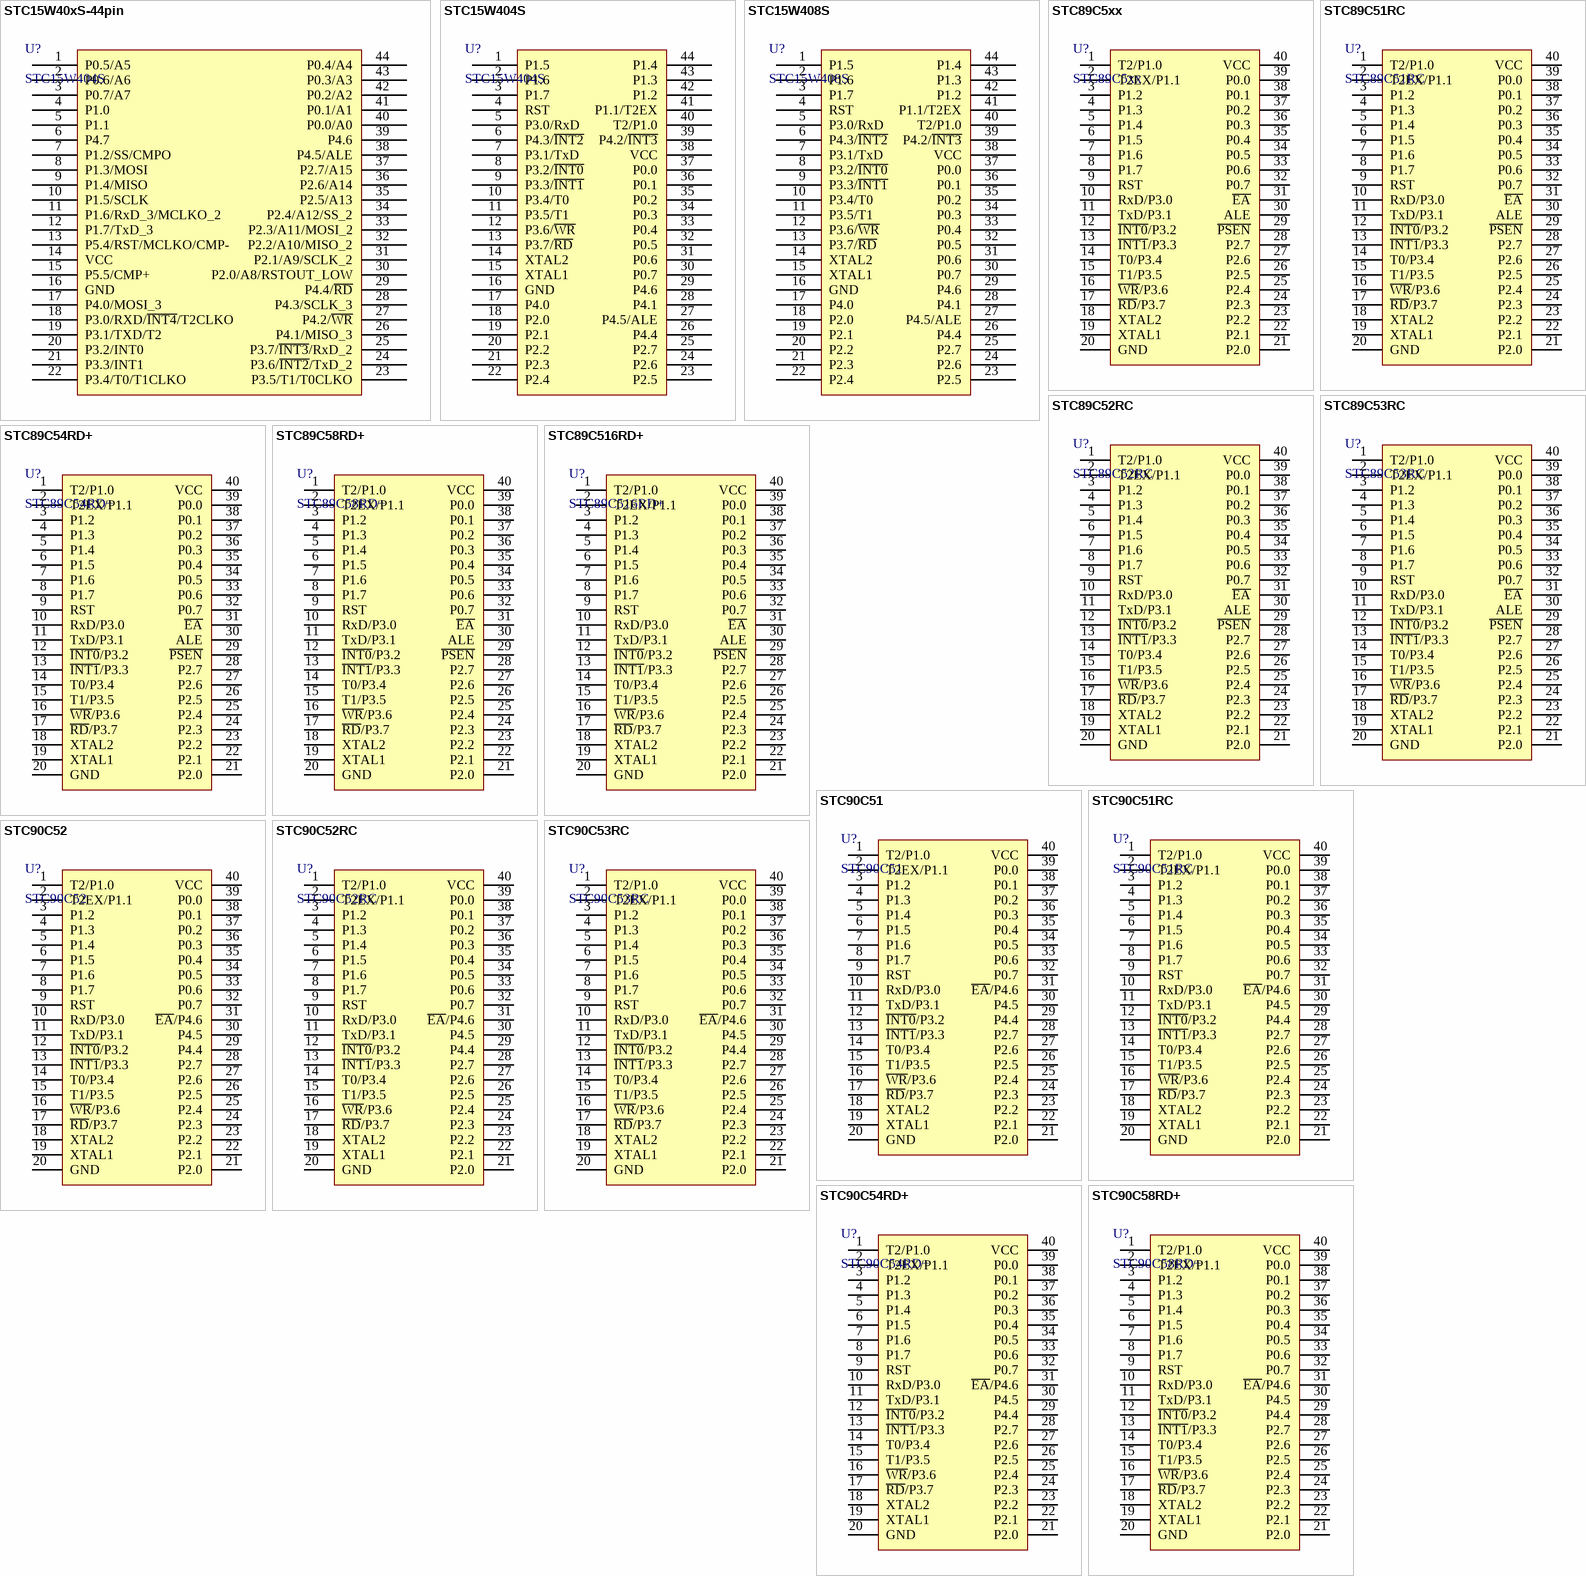
[diagram p2: symbols STC15W40xS-44pin to STC90C58RD+]

## STC15W40xS-44pin
designator U?, comment STC15W404S
STC单片机; 版权归属: 源创客; BOM名称: STC单片机; 学习资源: www.ooocke.com
footprint LQFP44 10x10_L (10*10*1.4(长宽高，除引脚）)
footprint LQFP44 10x10_N (10*10*1.4(长宽高，除引脚）)
footprint LQFP44 10x10_M (10*10*1.4(长宽高，除引脚）)
pins: 1 P0.5/A5, 2 P0.6/A6, 3 P0.7/A7, 4 P1.0, 5 P1.1, 6 P4.7, 7 P1.2/SS/CMPO, 8 P1.3/MOSI, 9 P1.4/MISO, 10 P1.5/SCLK, 11 P1.6/RxD_3/MCLKO_2, 12 P1.7/TxD_3, 13 P5.4/RST/MCLKO/CMP-, 14 VCC, 15 P5.5/CMP+, 16 GND, 17 P4.0/MOSI_3, 18 P3.0/RXD/~{INT4}/T2CLKO, 19 P3.1/TXD/T2, 20 P3.2/INT0, 21 P3.3/INT1, 22 P3.4/T0/T1CLKO, 23 P3.5/T1/T0CLKO, 24 P3.6/~{INT2}/TxD_2, 25 P3.7/~{INT3}/RxD_2, 26 P4.1/MISO_3, 27 P4.2/~{WR}, 28 P4.3/SCLK_3, 29 P4.4/~{RD}, 30 P2.0/A8/RSTOUT_LOW, 31 P2.1/A9/SCLK_2, 32 P2.2/A10/MISO_2, 33 P2.3/A11/MOSI_2, 34 P2.4/A12/SS_2, 35 P2.5/A13, 36 P2.6/A14, 37 P2.7/A15, 38 P4.5/ALE, 39 P4.6, 40 P0.0/A0, 41 P0.1/A1, 42 P0.2/A2, 43 P0.3/A3, 44 P0.4/A4

## STC15W404S
designator U?
STC单片机; 版权归属: 源创客; BOM名称: STC单片机; 学习资源: www.ooocke.com
footprint LQFP44 10X10_N (10*10*1.4(长宽高，除引脚）)
footprint LQFP44 10X10_L (10*10*1.4(长宽高，除引脚）)
footprint LQFP44 10X10_M (10*10*1.4(长宽高，除引脚）)
pins: 1 P1.5, 2 P1.6, 3 P1.7, 4 RST, 5 P3.0/RxD, 6 P4.3/~{INT2}, 7 P3.1/TxD, 8 P3.2/~{INT0}, 9 P3.3/~{INT1}, 10 P3.4/T0, 11 P3.5/T1, 12 P3.6/~{WR}, 13 P3.7/~{RD}, 14 XTAL2, 15 XTAL1, 16 GND, 17 P4.0, 18 P2.0, 19 P2.1, 20 P2.2, 21 P2.3, 22 P2.4, 23 P2.5, 24 P2.6, 25 P2.7, 26 P4.4, 27 P4.5/ALE, 28 P4.1, 29 P4.6, 30 P0.7, 31 P0.6, 32 P0.5, 33 P0.4, 34 P0.3, 35 P0.2, 36 P0.1, 37 P0.0, 38 VCC, 39 P4.2/~{INT3}, 40 T2/P1.0, 41 P1.1/T2EX, 42 P1.2, 43 P1.3, 44 P1.4

## STC15W408S
designator U?
STC单片机; 版权归属: 源创客; BOM名称: STC单片机; 学习资源: www.ooocke.com
footprint LQFP44 10X10_N (10*10*1.4(长宽高，除引脚）)
footprint LQFP44 10X10_L (10*10*1.4(长宽高，除引脚）)
footprint LQFP44 10X10_M (10*10*1.4(长宽高，除引脚）)
pins: 1 P1.5, 2 P1.6, 3 P1.7, 4 RST, 5 P3.0/RxD, 6 P4.3/~{INT2}, 7 P3.1/TxD, 8 P3.2/~{INT0}, 9 P3.3/~{INT1}, 10 P3.4/T0, 11 P3.5/T1, 12 P3.6/~{WR}, 13 P3.7/~{RD}, 14 XTAL2, 15 XTAL1, 16 GND, 17 P4.0, 18 P2.0, 19 P2.1, 20 P2.2, 21 P2.3, 22 P2.4, 23 P2.5, 24 P2.6, 25 P2.7, 26 P4.4, 27 P4.5/ALE, 28 P4.1, 29 P4.6, 30 P0.7, 31 P0.6, 32 P0.5, 33 P0.4, 34 P0.3, 35 P0.2, 36 P0.1, 37 P0.0, 38 VCC, 39 P4.2/~{INT3}, 40 T2/P1.0, 41 P1.1/T2EX, 42 P1.2, 43 P1.3, 44 P1.4

## STC89C5xx
designator U?
STC单片机; 版权归属: 源创客; BOM名称: STC单片机; 学习资源: www.ooocke.com
footprint DIP40-600 (52*15.2*4mm(长宽高))
pins: 1 T2/P1.0, 2 T2EX/P1.1, 3 P1.2, 4 P1.3, 5 P1.4, 6 P1.5, 7 P1.6, 8 P1.7, 9 RST, 10 RxD/P3.0, 11 TxD/P3.1, 12 ~{INT0}/P3.2, 13 ~{INT1}/P3.3, 14 T0/P3.4, 15 T1/P3.5, 16 ~{WR}/P3.6, 17 ~{RD}/P3.7, 18 XTAL2, 19 XTAL1, 20 GND, 21 P2.0, 22 P2.1, 23 P2.2, 24 P2.3, 25 P2.4, 26 P2.5, 27 P2.6, 28 P2.7, 29 ~{PSEN}, 30 ALE, 31 ~{EA}, 32 P0.7, 33 P0.6, 34 P0.5, 35 P0.4, 36 P0.3, 37 P0.2, 38 P0.1, 39 P0.0, 40 VCC

## STC89C51RC
designator U?
STC单片机; 版权归属: 源创客; BOM名称: STC单片机; 学习资源: www.ooocke.com
footprint DIP40-600 (52*15.2*4mm(长宽高))
pins: 1 T2/P1.0, 2 T2EX/P1.1, 3 P1.2, 4 P1.3, 5 P1.4, 6 P1.5, 7 P1.6, 8 P1.7, 9 RST, 10 RxD/P3.0, 11 TxD/P3.1, 12 ~{INT0}/P3.2, 13 ~{INT1}/P3.3, 14 T0/P3.4, 15 T1/P3.5, 16 ~{WR}/P3.6, 17 ~{RD}/P3.7, 18 XTAL2, 19 XTAL1, 20 GND, 21 P2.0, 22 P2.1, 23 P2.2, 24 P2.3, 25 P2.4, 26 P2.5, 27 P2.6, 28 P2.7, 29 ~{PSEN}, 30 ALE, 31 ~{EA}, 32 P0.7, 33 P0.6, 34 P0.5, 35 P0.4, 36 P0.3, 37 P0.2, 38 P0.1, 39 P0.0, 40 VCC

## STC89C52RC
designator U?
STC单片机; 版权归属: 源创客; BOM名称: STC单片机; 学习资源: www.ooocke.com
footprint DIP40-600 (52*15.2*4mm(长宽高))
pins: 1 T2/P1.0, 2 T2EX/P1.1, 3 P1.2, 4 P1.3, 5 P1.4, 6 P1.5, 7 P1.6, 8 P1.7, 9 RST, 10 RxD/P3.0, 11 TxD/P3.1, 12 ~{INT0}/P3.2, 13 ~{INT1}/P3.3, 14 T0/P3.4, 15 T1/P3.5, 16 ~{WR}/P3.6, 17 ~{RD}/P3.7, 18 XTAL2, 19 XTAL1, 20 GND, 21 P2.0, 22 P2.1, 23 P2.2, 24 P2.3, 25 P2.4, 26 P2.5, 27 P2.6, 28 P2.7, 29 ~{PSEN}, 30 ALE, 31 ~{EA}, 32 P0.7, 33 P0.6, 34 P0.5, 35 P0.4, 36 P0.3, 37 P0.2, 38 P0.1, 39 P0.0, 40 VCC

## STC89C53RC
designator U?
STC单片机; 版权归属: 源创客; BOM名称: STC单片机; 学习资源: www.ooocke.com
footprint DIP40-600 (52*15.2*4mm(长宽高))
pins: 1 T2/P1.0, 2 T2EX/P1.1, 3 P1.2, 4 P1.3, 5 P1.4, 6 P1.5, 7 P1.6, 8 P1.7, 9 RST, 10 RxD/P3.0, 11 TxD/P3.1, 12 ~{INT0}/P3.2, 13 ~{INT1}/P3.3, 14 T0/P3.4, 15 T1/P3.5, 16 ~{WR}/P3.6, 17 ~{RD}/P3.7, 18 XTAL2, 19 XTAL1, 20 GND, 21 P2.0, 22 P2.1, 23 P2.2, 24 P2.3, 25 P2.4, 26 P2.5, 27 P2.6, 28 P2.7, 29 ~{PSEN}, 30 ALE, 31 ~{EA}, 32 P0.7, 33 P0.6, 34 P0.5, 35 P0.4, 36 P0.3, 37 P0.2, 38 P0.1, 39 P0.0, 40 VCC

## STC89C54RD+
designator U?
STC单片机; 版权归属: 源创客; BOM名称: STC单片机; 学习资源: www.ooocke.com
footprint DIP40-600 (52*15.2*4mm(长宽高))
pins: 1 T2/P1.0, 2 T2EX/P1.1, 3 P1.2, 4 P1.3, 5 P1.4, 6 P1.5, 7 P1.6, 8 P1.7, 9 RST, 10 RxD/P3.0, 11 TxD/P3.1, 12 ~{INT0}/P3.2, 13 ~{INT1}/P3.3, 14 T0/P3.4, 15 T1/P3.5, 16 ~{WR}/P3.6, 17 ~{RD}/P3.7, 18 XTAL2, 19 XTAL1, 20 GND, 21 P2.0, 22 P2.1, 23 P2.2, 24 P2.3, 25 P2.4, 26 P2.5, 27 P2.6, 28 P2.7, 29 ~{PSEN}, 30 ALE, 31 ~{EA}, 32 P0.7, 33 P0.6, 34 P0.5, 35 P0.4, 36 P0.3, 37 P0.2, 38 P0.1, 39 P0.0, 40 VCC

## STC89C58RD+
designator U?
STC单片机; 版权归属: 源创客; BOM名称: STC单片机; 学习资源: www.ooocke.com
footprint DIP40-600 (52*15.2*4mm(长宽高))
pins: 1 T2/P1.0, 2 T2EX/P1.1, 3 P1.2, 4 P1.3, 5 P1.4, 6 P1.5, 7 P1.6, 8 P1.7, 9 RST, 10 RxD/P3.0, 11 TxD/P3.1, 12 ~{INT0}/P3.2, 13 ~{INT1}/P3.3, 14 T0/P3.4, 15 T1/P3.5, 16 ~{WR}/P3.6, 17 ~{RD}/P3.7, 18 XTAL2, 19 XTAL1, 20 GND, 21 P2.0, 22 P2.1, 23 P2.2, 24 P2.3, 25 P2.4, 26 P2.5, 27 P2.6, 28 P2.7, 29 ~{PSEN}, 30 ALE, 31 ~{EA}, 32 P0.7, 33 P0.6, 34 P0.5, 35 P0.4, 36 P0.3, 37 P0.2, 38 P0.1, 39 P0.0, 40 VCC

## STC89C516RD+
designator U?
STC单片机; 版权归属: 源创客; BOM名称: STC单片机; 学习资源: www.ooocke.com
footprint DIP40-600 (52*15.2*4mm(长宽高))
pins: 1 T2/P1.0, 2 T2EX/P1.1, 3 P1.2, 4 P1.3, 5 P1.4, 6 P1.5, 7 P1.6, 8 P1.7, 9 RST, 10 RxD/P3.0, 11 TxD/P3.1, 12 ~{INT0}/P3.2, 13 ~{INT1}/P3.3, 14 T0/P3.4, 15 T1/P3.5, 16 ~{WR}/P3.6, 17 ~{RD}/P3.7, 18 XTAL2, 19 XTAL1, 20 GND, 21 P2.0, 22 P2.1, 23 P2.2, 24 P2.3, 25 P2.4, 26 P2.5, 27 P2.6, 28 P2.7, 29 ~{PSEN}, 30 ALE, 31 ~{EA}, 32 P0.7, 33 P0.6, 34 P0.5, 35 P0.4, 36 P0.3, 37 P0.2, 38 P0.1, 39 P0.0, 40 VCC

## STC90C51
designator U?
STC单片机; 版权归属: 源创客; BOM名称: STC单片机; 学习资源: www.ooocke.com
footprint DIP40-600 (52*15.2*4mm(长宽高))
pins: 1 T2/P1.0, 2 T2EX/P1.1, 3 P1.2, 4 P1.3, 5 P1.4, 6 P1.5, 7 P1.6, 8 P1.7, 9 RST, 10 RxD/P3.0, 11 TxD/P3.1, 12 ~{INT0}/P3.2, 13 ~{INT1}/P3.3, 14 T0/P3.4, 15 T1/P3.5, 16 ~{WR}/P3.6, 17 ~{RD}/P3.7, 18 XTAL2, 19 XTAL1, 20 GND, 21 P2.0, 22 P2.1, 23 P2.2, 24 P2.3, 25 P2.4, 26 P2.5, 27 P2.6, 28 P2.7, 29 P4.4, 30 P4.5, 31 ~{EA}/P4.6, 32 P0.7, 33 P0.6, 34 P0.5, 35 P0.4, 36 P0.3, 37 P0.2, 38 P0.1, 39 P0.0, 40 VCC

## STC90C51RC
designator U?
STC单片机; 版权归属: 源创客; BOM名称: STC单片机; 学习资源: www.ooocke.com
footprint DIP40-600 (52*15.2*4mm(长宽高))
pins: 1 T2/P1.0, 2 T2EX/P1.1, 3 P1.2, 4 P1.3, 5 P1.4, 6 P1.5, 7 P1.6, 8 P1.7, 9 RST, 10 RxD/P3.0, 11 TxD/P3.1, 12 ~{INT0}/P3.2, 13 ~{INT1}/P3.3, 14 T0/P3.4, 15 T1/P3.5, 16 ~{WR}/P3.6, 17 ~{RD}/P3.7, 18 XTAL2, 19 XTAL1, 20 GND, 21 P2.0, 22 P2.1, 23 P2.2, 24 P2.3, 25 P2.4, 26 P2.5, 27 P2.6, 28 P2.7, 29 P4.4, 30 P4.5, 31 ~{EA}/P4.6, 32 P0.7, 33 P0.6, 34 P0.5, 35 P0.4, 36 P0.3, 37 P0.2, 38 P0.1, 39 P0.0, 40 VCC

## STC90C52
designator U?
STC单片机; 版权归属: 源创客; BOM名称: STC单片机; 学习资源: www.ooocke.com
footprint DIP40-600 (52*15.2*4mm(长宽高))
pins: 1 T2/P1.0, 2 T2EX/P1.1, 3 P1.2, 4 P1.3, 5 P1.4, 6 P1.5, 7 P1.6, 8 P1.7, 9 RST, 10 RxD/P3.0, 11 TxD/P3.1, 12 ~{INT0}/P3.2, 13 ~{INT1}/P3.3, 14 T0/P3.4, 15 T1/P3.5, 16 ~{WR}/P3.6, 17 ~{RD}/P3.7, 18 XTAL2, 19 XTAL1, 20 GND, 21 P2.0, 22 P2.1, 23 P2.2, 24 P2.3, 25 P2.4, 26 P2.5, 27 P2.6, 28 P2.7, 29 P4.4, 30 P4.5, 31 ~{EA}/P4.6, 32 P0.7, 33 P0.6, 34 P0.5, 35 P0.4, 36 P0.3, 37 P0.2, 38 P0.1, 39 P0.0, 40 VCC

## STC90C52RC
designator U?
STC单片机; 版权归属: 源创客; BOM名称: STC单片机; 学习资源: www.ooocke.com
footprint DIP40-600 (52*15.2*4mm(长宽高))
pins: 1 T2/P1.0, 2 T2EX/P1.1, 3 P1.2, 4 P1.3, 5 P1.4, 6 P1.5, 7 P1.6, 8 P1.7, 9 RST, 10 RxD/P3.0, 11 TxD/P3.1, 12 ~{INT0}/P3.2, 13 ~{INT1}/P3.3, 14 T0/P3.4, 15 T1/P3.5, 16 ~{WR}/P3.6, 17 ~{RD}/P3.7, 18 XTAL2, 19 XTAL1, 20 GND, 21 P2.0, 22 P2.1, 23 P2.2, 24 P2.3, 25 P2.4, 26 P2.5, 27 P2.6, 28 P2.7, 29 P4.4, 30 P4.5, 31 ~{EA}/P4.6, 32 P0.7, 33 P0.6, 34 P0.5, 35 P0.4, 36 P0.3, 37 P0.2, 38 P0.1, 39 P0.0, 40 VCC

## STC90C53RC
designator U?
STC单片机; 版权归属: 源创客; BOM名称: STC单片机; 学习资源: www.ooocke.com
footprint DIP40-600 (52*15.2*4mm(长宽高))
pins: 1 T2/P1.0, 2 T2EX/P1.1, 3 P1.2, 4 P1.3, 5 P1.4, 6 P1.5, 7 P1.6, 8 P1.7, 9 RST, 10 RxD/P3.0, 11 TxD/P3.1, 12 ~{INT0}/P3.2, 13 ~{INT1}/P3.3, 14 T0/P3.4, 15 T1/P3.5, 16 ~{WR}/P3.6, 17 ~{RD}/P3.7, 18 XTAL2, 19 XTAL1, 20 GND, 21 P2.0, 22 P2.1, 23 P2.2, 24 P2.3, 25 P2.4, 26 P2.5, 27 P2.6, 28 P2.7, 29 P4.4, 30 P4.5, 31 ~{EA}/P4.6, 32 P0.7, 33 P0.6, 34 P0.5, 35 P0.4, 36 P0.3, 37 P0.2, 38 P0.1, 39 P0.0, 40 VCC

## STC90C54RD+
designator U?
STC单片机; 版权归属: 源创客; BOM名称: STC单片机; 学习资源: www.ooocke.com
footprint DIP40-600 (52*15.2*4mm(长宽高))
pins: 1 T2/P1.0, 2 T2EX/P1.1, 3 P1.2, 4 P1.3, 5 P1.4, 6 P1.5, 7 P1.6, 8 P1.7, 9 RST, 10 RxD/P3.0, 11 TxD/P3.1, 12 ~{INT0}/P3.2, 13 ~{INT1}/P3.3, 14 T0/P3.4, 15 T1/P3.5, 16 ~{WR}/P3.6, 17 ~{RD}/P3.7, 18 XTAL2, 19 XTAL1, 20 GND, 21 P2.0, 22 P2.1, 23 P2.2, 24 P2.3, 25 P2.4, 26 P2.5, 27 P2.6, 28 P2.7, 29 P4.4, 30 P4.5, 31 ~{EA}/P4.6, 32 P0.7, 33 P0.6, 34 P0.5, 35 P0.4, 36 P0.3, 37 P0.2, 38 P0.1, 39 P0.0, 40 VCC

## STC90C58RD+
designator U?
STC单片机; 版权归属: 源创客; BOM名称: STC单片机; 学习资源: www.ooocke.com
footprint DIP40-600 (52*15.2*4mm(长宽高))
pins: 1 T2/P1.0, 2 T2EX/P1.1, 3 P1.2, 4 P1.3, 5 P1.4, 6 P1.5, 7 P1.6, 8 P1.7, 9 RST, 10 RxD/P3.0, 11 TxD/P3.1, 12 ~{INT0}/P3.2, 13 ~{INT1}/P3.3, 14 T0/P3.4, 15 T1/P3.5, 16 ~{WR}/P3.6, 17 ~{RD}/P3.7, 18 XTAL2, 19 XTAL1, 20 GND, 21 P2.0, 22 P2.1, 23 P2.2, 24 P2.3, 25 P2.4, 26 P2.5, 27 P2.6, 28 P2.7, 29 P4.4, 30 P4.5, 31 ~{EA}/P4.6, 32 P0.7, 33 P0.6, 34 P0.5, 35 P0.4, 36 P0.3, 37 P0.2, 38 P0.1, 39 P0.0, 40 VCC

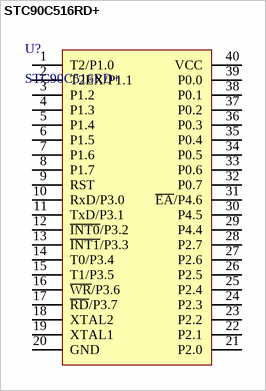
[diagram p3: symbol STC90C516RD+]

## STC90C516RD+
designator U?
STC单片机; 版权归属: 源创客; BOM名称: STC单片机; 学习资源: www.ooocke.com
footprint DIP40-600 (52*15.2*4mm(长宽高))
pins: 1 T2/P1.0, 2 T2EX/P1.1, 3 P1.2, 4 P1.3, 5 P1.4, 6 P1.5, 7 P1.6, 8 P1.7, 9 RST, 10 RxD/P3.0, 11 TxD/P3.1, 12 ~{INT0}/P3.2, 13 ~{INT1}/P3.3, 14 T0/P3.4, 15 T1/P3.5, 16 ~{WR}/P3.6, 17 ~{RD}/P3.7, 18 XTAL2, 19 XTAL1, 20 GND, 21 P2.0, 22 P2.1, 23 P2.2, 24 P2.3, 25 P2.4, 26 P2.5, 27 P2.6, 28 P2.7, 29 P4.4, 30 P4.5, 31 ~{EA}/P4.6, 32 P0.7, 33 P0.6, 34 P0.5, 35 P0.4, 36 P0.3, 37 P0.2, 38 P0.1, 39 P0.0, 40 VCC